# EAGLE library part MT46H256M32L4JV-5 (library lcs-2000)
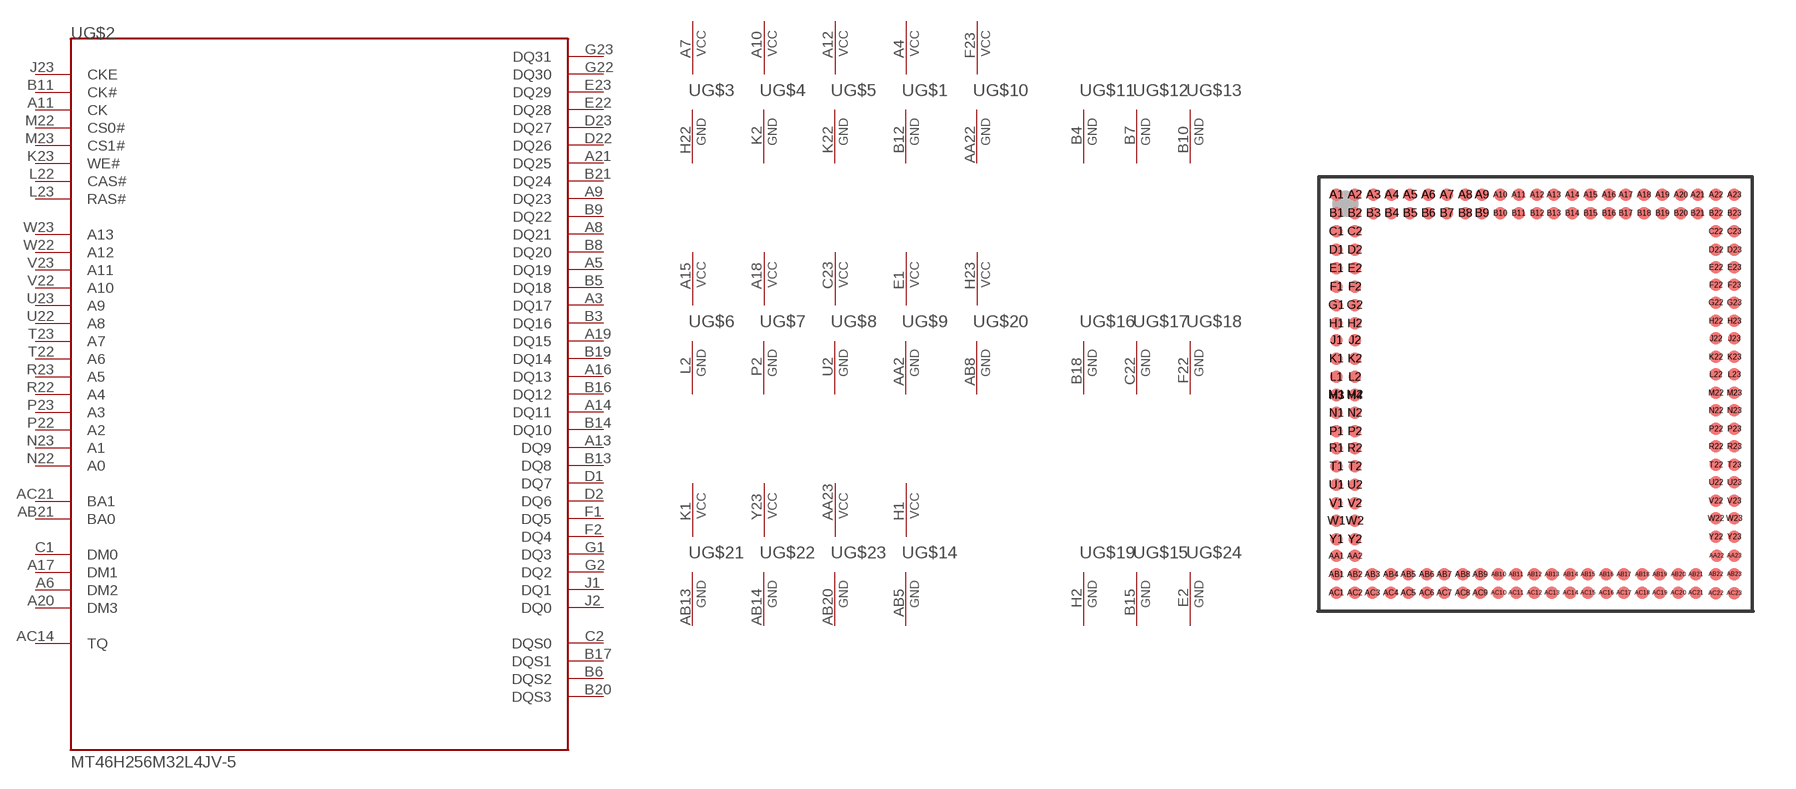
[diagram p3: symbol with the pads of VFPGA-168; footprint VFPGA-168]

Designator prefix -; gates G$2=MT46H256M32L4 G$3=PWRN G$4=PWRN G$5=PWRN G$6=PWRN G$7=PWRN G$8=PWRN G$1=PWRN G$9=PWRN G$10=PWRN G$11=GND G$12=GND G$13=GND G$16=GND G$17=GND G$18=GND G$19=GND G$20=PWRN G$21=PWRN G$22=PWRN G$23=PWRN G$14=PWRN G$15=GND G$24=GND

## MT46H256M32L4JV-5  [VFPGA-168]
A3  G$2:DQ17
A4  G$1:VCC  pwr
A5  G$2:DQ19
A6  G$2:DM2
A7  G$3:VCC  pwr
A8  G$2:DQ21
A9  G$2:DQ23
A10  G$4:VCC  pwr
A11  G$2:CK
A12  G$5:VCC  pwr
A13  G$2:DQ9
A14  G$2:DQ11
A15  G$6:VCC  pwr
A16  G$2:DQ13
A17  G$2:DM1
A18  G$7:VCC  pwr
A19  G$2:DQ15
A20  G$2:DM3
A21  G$2:DQ25
AA2  G$9:GND  pwr
AA22  G$10:GND  pwr
AA23  G$23:VCC  pwr
AB5  G$14:GND  pwr
AB8  G$20:GND  pwr
AB13  G$21:GND  pwr
AB14  G$22:GND  pwr
AB20  G$23:GND  pwr
AB21  G$2:BA0
AC14  G$2:TQ
AC21  G$2:BA1
B3  G$2:DQ16
B4  G$11:VSSQ  pwr
B5  G$2:DQ18
B6  G$2:DQS2
B7  G$12:VSSQ  pwr
B8  G$2:DQ20
B9  G$2:DQ22
B10  G$13:VSSQ  pwr
B11  G$2:CK#
B12  G$1:GND  pwr
B13  G$2:DQ8
B14  G$2:DQ10
B15  G$15:VSSQ  pwr
B16  G$2:DQ12
B17  G$2:DQS1
B18  G$16:VSSQ  pwr
B19  G$2:DQ14
B20  G$2:DQS3
B21  G$2:DQ24
C1  G$2:DM0
C2  G$2:DQS0
C22  G$17:VSSQ  pwr
C23  G$8:VCC  pwr
D1  G$2:DQ7
D2  G$2:DQ6
D22  G$2:DQ26
D23  G$2:DQ27
E1  G$9:VCC  pwr
E2  G$24:VSSQ  pwr
E22  G$2:DQ28
E23  G$2:DQ29
F1  G$2:DQ5
F2  G$2:DQ4
F22  G$18:VSSQ  pwr
F23  G$10:VCC  pwr
G1  G$2:DQ3
G2  G$2:DQ2
G22  G$2:DQ30
G23  G$2:DQ31
H1  G$14:VCC  pwr
H2  G$19:VSSQ  pwr
H22  G$3:GND  pwr
H23  G$20:VCC  pwr
J1  G$2:DQ1
J2  G$2:DQ0
J23  G$2:CKE
K1  G$21:VCC  pwr
K2  G$4:GND  pwr
K22  G$5:GND  pwr
K23  G$2:WE#
L2  G$6:GND  pwr
L22  G$2:CAS#
L23  G$2:RAS#
M22  G$2:CS0#
M23  G$2:CS1#
N22  G$2:A0
N23  G$2:A1
P2  G$7:GND  pwr
P22  G$2:A2
P23  G$2:A3
R22  G$2:A4
R23  G$2:A5
T22  G$2:A6
T23  G$2:A7
U2  G$8:GND  pwr
U22  G$2:A8
U23  G$2:A9
V22  G$2:A10
V23  G$2:A11
W22  G$2:A12
W23  G$2:A13
Y23  G$22:VCC  pwr

## Footprint VFPGA-168 (pad centres in mm)
smd 0.45 x 0.45: A1 -7.355,7.355; A2 -6.705,7.355; A3 -6.055,7.355; A4 -5.405,7.355; A5 -4.755,7.355; A6 -4.105,7.355; A7 -3.455,7.355; A8 -2.805,7.355; A9 -2.215,7.355; A10 -1.565,7.355; A11 -0.915,7.355; A12 -0.265,7.355; A13 0.325,7.355; A14 0.975,7.355; A15 1.625,7.355; A16 2.275,7.355; A17 2.865,7.355; A18 3.515,7.355; A19 4.165,7.355; A20 4.815,7.355; A21 5.405,7.355; A22 6.055,7.355; A23 6.705,7.355; AA1 -7.355,-5.405; AA2 -6.705,-5.405; AA22 6.08,-5.396; AA23 6.705,-5.396; AB1 -7.355,-6.055; AB2 -6.705,-6.055; AB3 -6.085,-6.055; AB4 -5.435,-6.055; AB5 -4.815,-6.055; AB6 -4.165,-6.055; AB7 -3.545,-6.055; AB8 -2.895,-6.055; AB9 -2.275,-6.055; AB10 -1.625,-6.055; AB11 -1.005,-6.055; AB12 -0.355,-6.055; AB13 0.265,-6.055; AB14 0.915,-6.055; AB15 1.535,-6.055; AB16 2.185,-6.055; AB17 2.805,-6.055; AB18 3.455,-6.055; AB19 4.075,-6.055; AB20 4.725,-6.055; AB21 5.345,-6.055; AB22 6.055,-6.046; AB23 6.705,-6.046; AC1 -7.355,-6.705; AC2 -6.705,-6.705; AC3 -6.085,-6.705; AC4 -5.435,-6.705; AC5 -4.815,-6.705; AC6 -4.165,-6.705; AC7 -3.545,-6.705; AC8 -2.895,-6.705; AC9 -2.275,-6.705; AC10 -1.625,-6.705; AC11 -1.005,-6.705; AC12 -0.355,-6.705; AC13 0.265,-6.705; AC14 0.915,-6.705; AC15 1.535,-6.705; AC16 2.185,-6.705; AC17 2.805,-6.705; AC18 3.455,-6.705; AC19 4.075,-6.705; AC20 4.725,-6.705; AC21 5.345,-6.705; AC22 6.055,-6.717; AC23 6.705,-6.717; B1 -7.355,6.705; B2 -6.705,6.705; B3 -6.055,6.705; B4 -5.405,6.705; B5 -4.755,6.705; B6 -4.105,6.705; B7 -3.455,6.705; B8 -2.805,6.705; B9 -2.215,6.705; B10 -1.565,6.705; B11 -0.915,6.705; B12 -0.265,6.705; B13 0.325,6.705; B14 0.975,6.705; B15 1.625,6.705; B16 2.275,6.705; B17 2.865,6.705; B18 3.515,6.705; B19 4.165,6.705; B20 4.815,6.705; B21 5.405,6.705; B22 6.055,6.705; B23 6.705,6.705; C1 -7.355,6.055; C2 -6.705,6.055; C22 6.055,6.06; C23 6.705,6.06; D1 -7.355,5.405; D2 -6.705,5.405; D22 6.055,5.41; D23 6.705,5.41; E1 -7.355,4.755; E2 -6.705,4.755; E22 6.055,4.79; E23 6.705,4.79; F1 -7.355,4.105; F2 -6.705,4.105; F22 6.055,4.165; F23 6.705,4.165; G1 -7.355,3.455; G2 -6.705,3.455; G22 6.055,3.545; G23 6.705,3.545; H1 -7.355,2.805; H2 -6.705,2.805; H3 -7.355,0.265; H4 -6.705,0.265; H22 6.055,2.895; H23 6.705,2.895; J1 -7.355,2.215; J2 -6.705,2.215; J22 6.055,2.275; J23 6.705,2.275; K1 -7.355,1.565; K2 -6.705,1.565; K22 6.055,1.625; K23 6.705,1.625; L1 -7.355,0.915; L2 -6.705,0.915; L22 6.055,1.005; L23 6.705,1.005; M1 -7.355,0.295; M2 -6.705,0.295; M22 6.055,0.355; M23 6.705,0.355; N1 -7.355,-0.355; N2 -6.705,-0.355; N22 6.055,-0.265; N23 6.705,-0.265; P1 -7.355,-1.005; P2 -6.705,-1.005; P22 6.055,-0.915; P23 6.705,-0.915; R1 -7.355,-1.595; R2 -6.705,-1.595; R22 6.055,-1.535; R23 6.705,-1.535; T1 -7.355,-2.245; T2 -6.705,-2.245; T22 6.055,-2.185; T23 6.705,-2.185; U1 -7.355,-2.895; U2 -6.705,-2.895; U22 6.055,-2.805; U23 6.705,-2.805; V1 -7.355,-3.545; V2 -6.705,-3.545; V22 6.055,-3.455; V23 6.705,-3.455; W1 -7.355,-4.165; W2 -6.705,-4.165; W22 6.055,-4.075; W23 6.705,-4.075; Y1 -7.355,-4.815; Y2 -6.705,-4.815; Y22 6.055,-4.725; Y23 6.705,-4.725